# Altium footprint library f330-1.PCBLIB: 6 footprints
Each footprint in its own frame and in the unit in brackets; x right, y up, seen from the top. Pads: shape width x height; smd on the part's side, far side on the other; paste and mask are expansions set on the pad; w line width, h text height; cw(c..) or ccw(c..) is an arc to the next point about the centre after c.
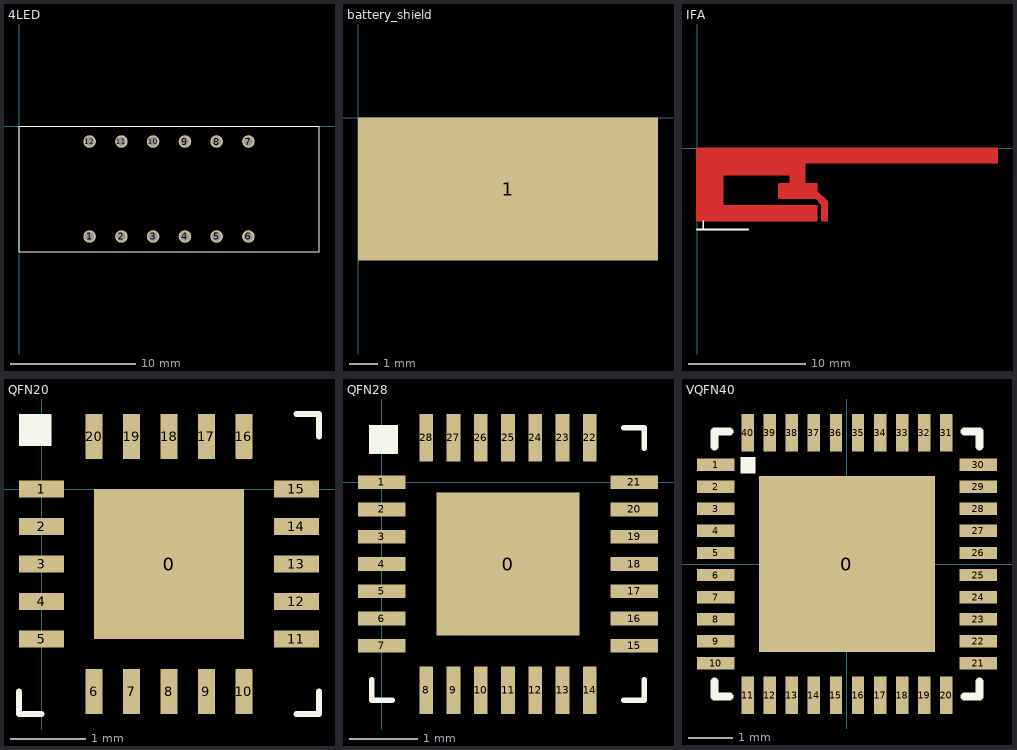
[diagram p0: the footprints below, top view; thin cyan lines are the x and y axes]

## 4LED [mm]
pads (12):
  round 1 hole 0.7: 1(5.65,-8.8) 2(8.19,-8.8) 3(10.73,-8.8) 4(13.27,-8.8) 5(15.81,-8.8) 6(18.35,-8.8) 7(18.35,-1.2) 8(15.81,-1.2) 9(13.27,-1.2) 10(10.73,-1.2) 11(8.19,-1.2) 12(5.65,-1.2)
TopOverlay:
  lines w0.1: 0,-10 24,-10 24,0 0,0 0,-10

## battery_shield [mm]
pads (1):
  rect 10.5x5 smd: 1(5.25,-2.5)

## IFA [mm]
TopLayer:
  region: 2.18,-4.88 2.18,-2.21 7.98,-2.21 7.98,-3.01 6.98,-3.01 6.98,-4.22 10.11,-4.22 10.63,-4.74 10.63,-6.16 11.09,-6.16 11.09,-4.54 10.18,-3.63 10.18,-3.01 9.18,-3.01 9.18,-1.21 25.58,-1.21 25.58,0 0,0 0,-6.17 10.18,-6.17 10.18,-4.88
  lines w0.15: 2.18,-4.88 2.18,-2.21 7.98,-2.21 7.98,-3.01 6.98,-3.01 6.98,-4.22 10.11,-4.22 10.63,-4.74 10.63,-6.16 11.09,-6.16 11.09,-4.54 10.18,-3.63 10.18,-3.01 9.18,-3.01 9.18,-1.21 25.58,-1.21 25.58,0 0,0 0,-6.17 10.18,-6.17 10.18,-4.88 2.19,-4.88
TopOverlay:
  lines w0.15: 0,-6.91 4.37,-6.91 ; 0.53,-6.91 0.53,-6.17

## QFN20 [mm]
pads (21):
  rect 2x2 smd: 0(1.7,-1)
  rect 0.6x0.23 smd: 1(0,0) 2(0,-0.5) 3(0,-1) 4(0,-1.5) 5(0,-2) 11(3.4,-2) 12(3.4,-1.5) 13(3.4,-1) 14(3.4,-0.5) 15(3.4,0)
  rect 0.23x0.6 smd: 6(0.7,-2.7) 7(1.2,-2.7) 8(1.7,-2.7) 9(2.2,-2.7) 10(2.7,-2.7) 16(2.7,0.7) 17(2.2,0.7) 18(1.7,0.7) 19(1.2,0.7) 20(0.7,0.7)
TopOverlay:
  rectangle: -0.3,0.57 0.13,1
  lines w0.08: -0.3,-2.7 -0.3,-3 0,-3 ; 3.4,-3 3.7,-3 3.7,-2.7 ; 3.4,1 3.7,1 3.7,0.7

## QFN28 [mm]
pads (29):
  rect 2.1x2.1 smd: 0(1.85,-1.2)
  rect 0.7x0.2 smd: 1(0,0) 2(0,-0.4) 3(0,-0.8) 4(0,-1.2) 5(0,-1.6) 6(0,-2) 7(0,-2.4) 15(3.7,-2.4) 16(3.7,-2) 17(3.7,-1.6) 18(3.7,-1.2) 19(3.7,-0.8) 20(3.7,-0.4) 21(3.7,0)
  rect 0.2x0.7 smd: 8(0.65,-3.05) 9(1.05,-3.05) 10(1.45,-3.05) 11(1.85,-3.05) 12(2.25,-3.05) 13(2.65,-3.05) 14(3.05,-3.05) 22(3.05,0.65) 23(2.65,0.65) 24(2.25,0.65) 25(1.85,0.65) 26(1.45,0.65) 27(1.05,0.65) 28(0.65,0.65)
TopOverlay:
  rectangle: -0.19,0.41 0.24,0.84
  lines w0.08: -0.15,-2.9 -0.15,-3.2 0.15,-3.2 ; 3.55,-3.2 3.85,-3.2 3.85,-2.9 ; 3.55,0.8 3.85,0.8 3.85,0.5

## VQFN40 [mm]
pads (41):
  rect 4x4 smd: 0(0,0)
  rect 0.85x0.28 smd: 1(-2.975,2.25) 2(-2.975,1.75) 3(-2.975,1.25) 4(-2.975,0.75) 5(-2.975,0.25) 6(-2.975,-0.25) 7(-2.975,-0.75) 8(-2.975,-1.25) 9(-2.975,-1.75) 10(-2.975,-2.25) 21(2.975,-2.25) 22(2.975,-1.75) 23(2.975,-1.25) 24(2.975,-0.75) 25(2.975,-0.25) 26(2.975,0.25) 27(2.975,0.75) 28(2.975,1.25) 29(2.975,1.75) 30(2.975,2.25)
  rect 0.28x0.85 smd: 11(-2.25,-2.975) 12(-1.75,-2.975) 13(-1.25,-2.975) 14(-0.75,-2.975) 15(-0.25,-2.975) 16(0.25,-2.975) 17(0.75,-2.975) 18(1.25,-2.975) 19(1.75,-2.975) 20(2.25,-2.975) 31(2.25,2.975) 32(1.75,2.975) 33(1.25,2.975) 34(0.75,2.975) 35(0.25,2.975) 36(-0.25,2.975) 37(-0.75,2.975) 38(-1.25,2.975) 39(-1.75,2.975) 40(-2.25,2.975)
TopOverlay:
  rectangle: -2.41,2.05 -2.07,2.42
  lines w0.178: -3,-2.66 -3,-3 -2.66,-3 ; -3,2.66 -3,3 -2.66,3 ; 2.66,-3 3,-3 3,-2.66 ; 2.66,3 3,3 3,2.66